# EAGLE library part XC9572_S44 (library xilinx-xc9)
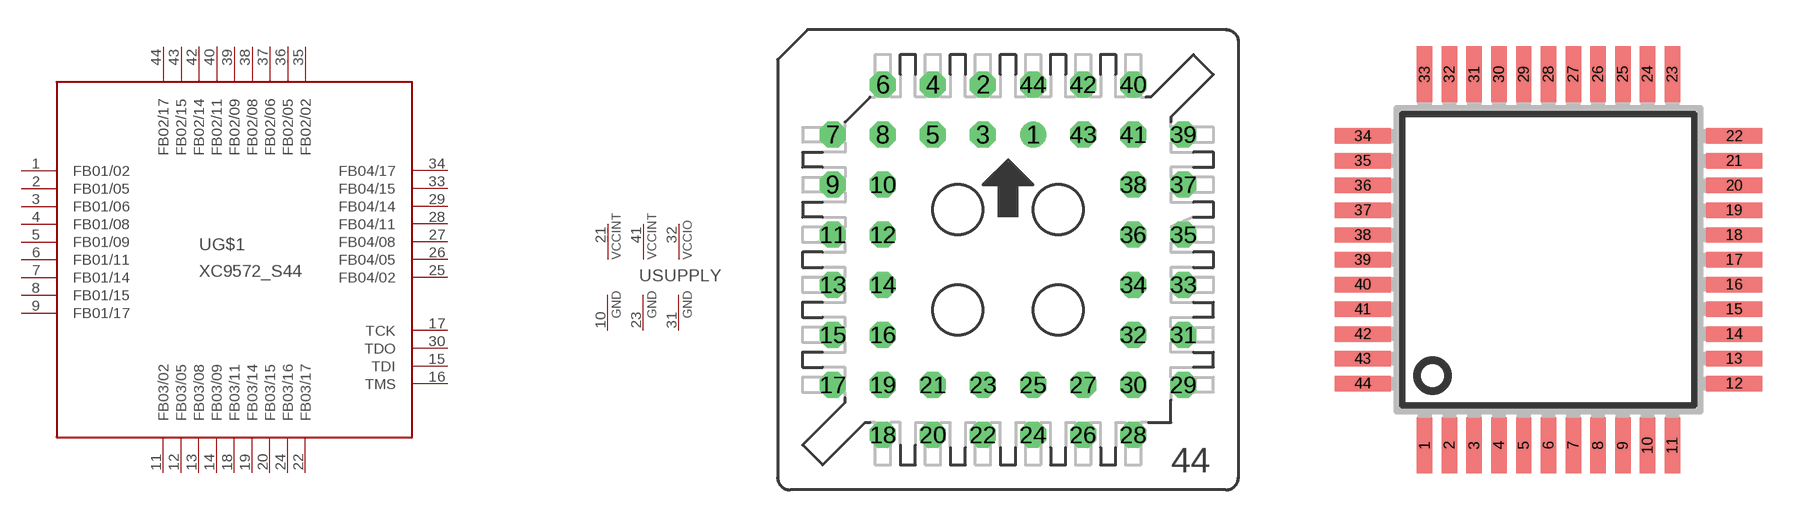
[diagram p0: symbol with the pads of S44; footprints S44, SQFP-S-10X10-44]

Designator prefix -; gates G$1=XC9572_PC44 SUPPLY=SUPPLY

## XC9572_S44PLCC  [S44]
1  G$1:FB01/02
2  G$1:FB01/05
3  G$1:FB01/06
4  G$1:FB01/08
5  G$1:FB01/09
6  G$1:FB01/11
7  G$1:FB01/14
8  G$1:FB01/15
9  G$1:FB01/17
10  SUPPLY:GND  pwr
11  G$1:FB03/02
12  G$1:FB03/05
13  G$1:FB03/08
14  G$1:FB03/09
15  G$1:TDI  in
16  G$1:TMS  in
17  G$1:TCK  in
18  G$1:FB03/11
19  G$1:FB03/14
20  G$1:FB03/15
21  SUPPLY:VCCINT  pwr
22  G$1:FB03/17
23  SUPPLY:GND  pwr
24  G$1:FB03/16
25  G$1:FB04/02
26  G$1:FB04/05
27  G$1:FB04/08
28  G$1:FB04/11
29  G$1:FB04/14
30  G$1:TDO  out
31  SUPPLY:GND  pwr
32  SUPPLY:VCCIO  pwr
33  G$1:FB04/15
34  G$1:FB04/17
35  G$1:FB02/02
36  G$1:FB02/05
37  G$1:FB02/06
38  G$1:FB02/08
39  G$1:FB02/09
40  G$1:FB02/11
41  SUPPLY:VCCINT  pwr
42  G$1:FB02/14
43  G$1:FB02/15
44  G$1:FB02/17

## XC9572_S44VQFP  [SQFP-S-10X10-44]
1  G$1:FB01/14
2  G$1:FB01/15
3  G$1:FB01/17
4  SUPPLY:GND  pwr
5  G$1:FB03/02
6  G$1:FB03/05
7  G$1:FB03/08
8  G$1:FB03/09
9  G$1:TDI  in
10  G$1:TMS  in
11  G$1:TCK  in
12  G$1:FB03/11
13  G$1:FB03/14
14  G$1:FB03/15
15  SUPPLY:VCCINT  pwr
16  G$1:FB03/17
17  SUPPLY:GND  pwr
18  G$1:FB03/16
19  G$1:FB04/02
20  G$1:FB04/05
21  G$1:FB04/08
22  G$1:FB04/11
23  G$1:FB04/14
24  G$1:TDO  out
25  SUPPLY:GND  pwr
26  SUPPLY:VCCIO  pwr
27  G$1:FB04/15
28  G$1:FB04/17
29  G$1:FB02/02
30  G$1:FB02/05
31  G$1:FB02/06
32  G$1:FB02/08
33  G$1:FB02/09
34  G$1:FB02/11
35  SUPPLY:VCCINT  pwr
36  G$1:FB02/14
37  G$1:FB02/15
38  G$1:FB02/17
39  G$1:FB01/02
40  G$1:FB01/05
41  G$1:FB01/06
42  G$1:FB01/08
43  G$1:FB01/09
44  G$1:FB01/11

## Footprint S44 (pad centres in mm)
PLCC SOCKET
drill 0.813: 1 1.27,6.35
drill 0.813 octagon: 2 -1.27,8.89; 3 -1.27,6.35; 4 -3.81,8.89; 5 -3.81,6.35; 6 -6.35,8.89; 7 -8.89,6.35; 8 -6.35,6.35; 9 -8.89,3.81; 10 -6.35,3.81; 11 -8.89,1.27; 12 -6.35,1.27; 13 -8.89,-1.27; 14 -6.35,-1.27; 15 -8.89,-3.81; 16 -6.35,-3.81; 17 -8.89,-6.35; 18 -6.35,-8.89; 19 -6.35,-6.35; 20 -3.81,-8.89; 21 -3.81,-6.35; 22 -1.27,-8.89; 23 -1.27,-6.35; 24 1.27,-8.89; 25 1.27,-6.35; 26 3.81,-8.89; 27 3.81,-6.35; 28 6.35,-8.89; 29 8.89,-6.35; 30 6.35,-6.35; 31 8.89,-3.81; 32 6.35,-3.81; 33 8.89,-1.27; 34 6.35,-1.27; 35 8.89,1.27; 36 6.35,1.27; 37 8.89,3.81; 38 6.35,3.81; 39 8.89,6.35; 40 6.35,8.89; 41 6.35,6.35; 42 3.81,8.89; 43 3.81,6.35; 44 1.27,8.89

## Footprint SQFP-S-10X10-44 (pad centres in mm)
QFP44 shrink quad flat pack, square
smd 0.5 x 1.8: 1 -4,-6; 2 -3.2,-6; 3 -2.4,-6; 4 -1.6,-6; 5 -0.8,-6; 6 0,-6; 7 0.8,-6; 8 1.6,-6; 9 2.4,-6; 10 3.2,-6; 11 4,-6; 23 4,6; 24 3.2,6; 25 2.4,6; 26 1.6,6; 27 0.8,6; 28 0,6; 29 -0.8,6; 30 -1.6,6; 31 -2.4,6; 32 -3.2,6; 33 -4,6
smd 1.8 x 0.5: 12 6,-4; 13 6,-3.2; 14 6,-2.4; 15 6,-1.6; 16 6,-0.8; 17 6,0; 18 6,0.8; 19 6,1.6; 20 6,2.4; 21 6,3.2; 22 6,4; 34 -6,4; 35 -6,3.2; 36 -6,2.4; 37 -6,1.6; 38 -6,0.8; 39 -6,0; 40 -6,-0.8; 41 -6,-1.6; 42 -6,-2.4; 43 -6,-3.2; 44 -6,-4